# Altium footprint library MISC.PcbLib: 18 footprints (part 1 of 2)
Each footprint in its own frame and in the unit in brackets; x right, y up, seen from the top. Pads: shape width x height; smd on the part's side, far side on the other; paste and mask are expansions set on the pad; w line width, h text height; cw(c..) or ccw(c..) is an arc to the next point about the centre after c.
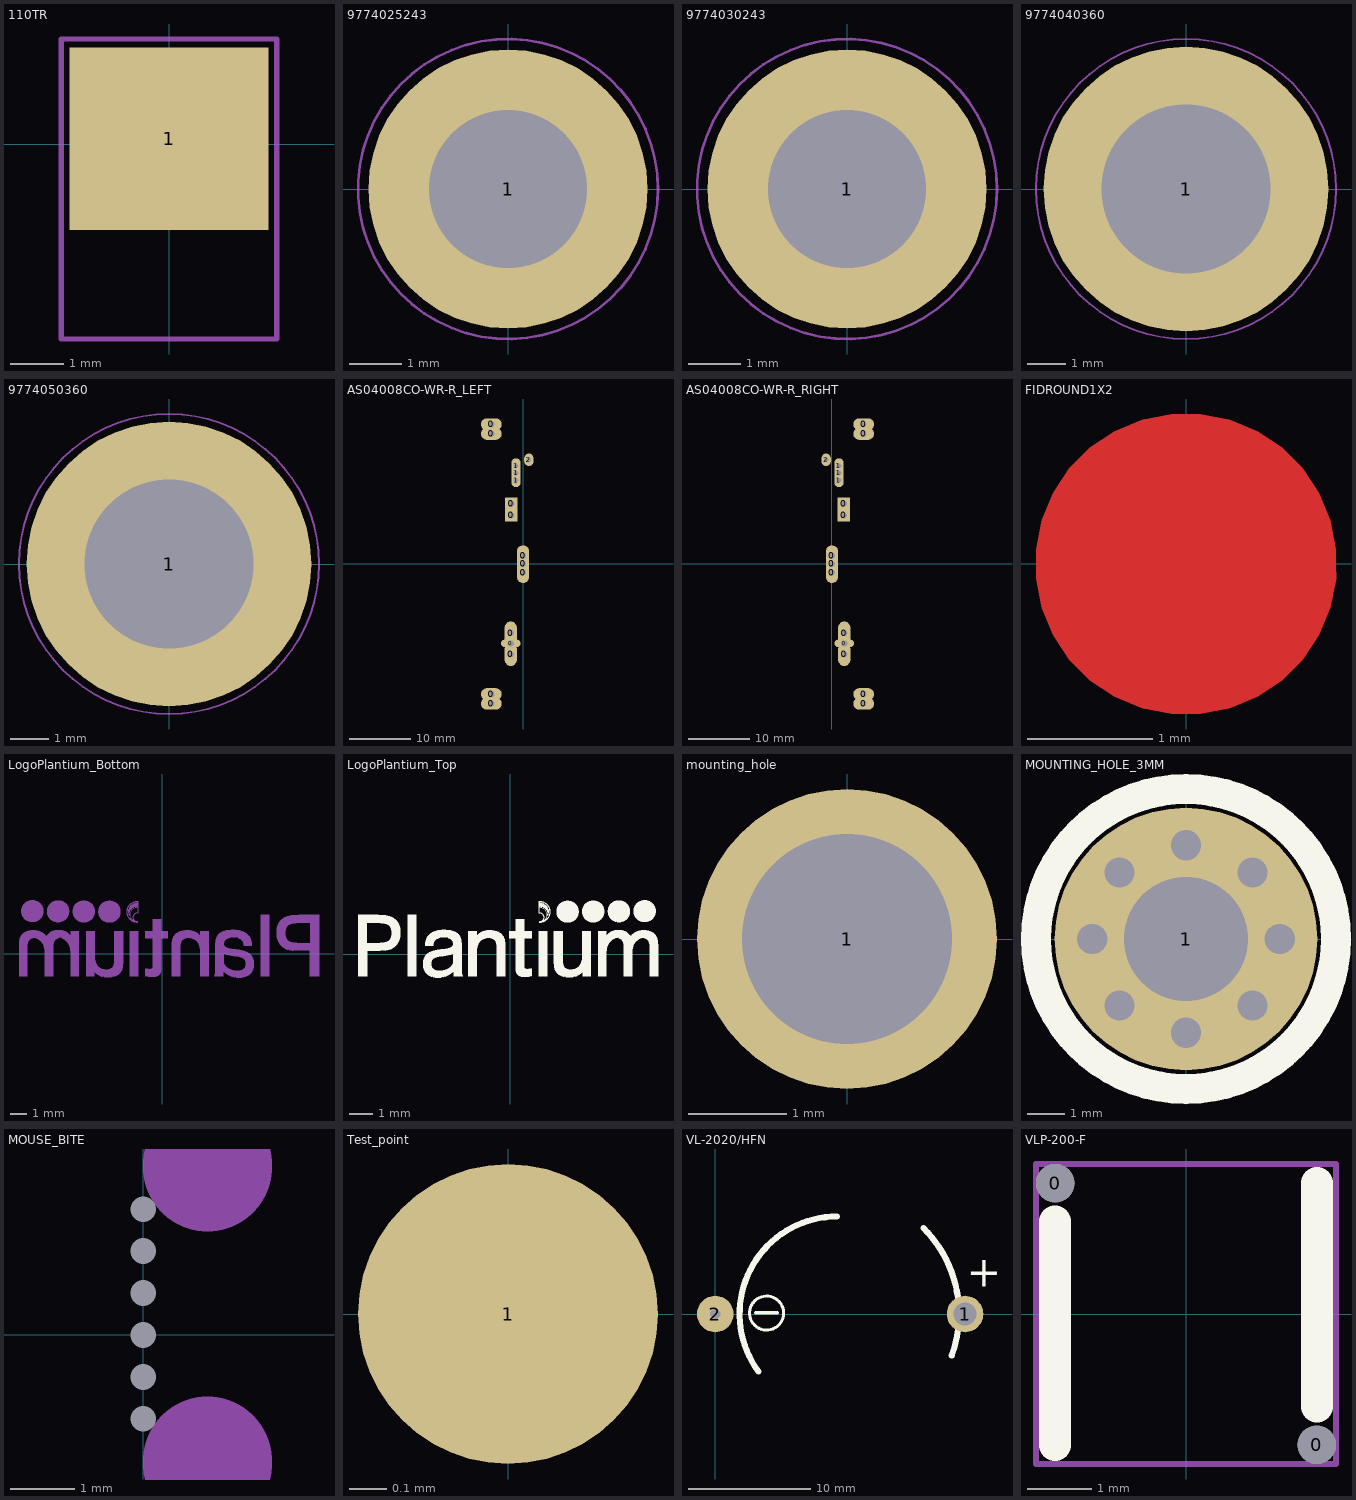
[diagram p0: the footprints below, top view; thin cyan lines are the x and y axes]

## 110TR [mm]
pads (1):
  rect 3.7x3.4 smd: 1(0,0.1)
Top Assembly:
  lines w0.102: -2.007,-3.632 2.007,-3.632 2.007,1.956 -2.007,1.956 -2.007,-3.632
  text ".Designator" at -1.219,-0.33 h1
Top Component Center:
  lines w0.15: -0.3,-0.002 0.3,-0.002 ; 0,-0.302 0,0.298
3D body "keystone-PN110TR.STEP": height 3.15, standoff -0.03, extent -1.753,-3.556 1.753,1.6

## 9774025243 [mm] "SMT Steel Spacer with internal Thread M2, height 2.5mm"
height 2.5
pads (1):
  round 5.3 / inner round 0 / far side round 0 hole 3 unplated: 1(0,0)
Top Paste:
  region: -2.542,0.3 -2.517,0.513 -2.397,0.924 -2.21,1.31 -1.962,1.659 -1.659,1.962 -1.31,2.21 -0.924,2.397 -0.513,2.517 -0.3,2.542 -0.3,1.521 -0.411,1.494 -0.627,1.418 -0.829,1.31 -1.012,1.174 -1.174,1.012 -1.31,0.829 -1.418,0.627 -1.494,0.411 -1.521,0.3
  region: -0.3,-2.542 -0.513,-2.517 -0.924,-2.397 -1.31,-2.21 -1.659,-1.962 -1.962,-1.659 -2.21,-1.31 -2.397,-0.924 -2.517,-0.513 -2.542,-0.3 -1.521,-0.3 -1.494,-0.411 -1.418,-0.627 -1.31,-0.829 -1.174,-1.012 -1.012,-1.174 -0.829,-1.31 -0.627,-1.418 -0.411,-1.494 -0.3,-1.521
  region: 2.542,-0.3 2.517,-0.513 2.397,-0.924 2.21,-1.31 1.962,-1.659 1.659,-1.962 1.31,-2.21 0.924,-2.397 0.513,-2.517 0.3,-2.542 0.3,-1.521 0.411,-1.494 0.627,-1.418 0.829,-1.31 1.012,-1.174 1.174,-1.012 1.31,-0.829 1.418,-0.627 1.494,-0.411 1.521,-0.3
  region: 0.3,2.542 0.513,2.517 0.924,2.397 1.31,2.21 1.659,1.962 1.962,1.659 2.21,1.31 2.397,0.924 2.517,0.513 2.542,0.3 1.521,0.3 1.494,0.411 1.418,0.627 1.31,0.829 1.174,1.012 1.012,1.174 0.829,1.31 0.627,1.418 0.411,1.494 0.3,1.521
Top Designator:
  text ".Designator" at -7.498,-0.5 h1.5
Top Component Outline:
  circle w0.1: c0,0 r2.175
Top 3D Body:
  circle w0.1: c0,0 r2.175
Top Courtyard:
  circle w0.05: c0,0 r2.85
  lines w0.05: -0.5,0 0.5,0 ; 0,-0.5 0,0.5
3D body "9774025243.stp": height 2.5, standoff -1.4, extent -2.175,-2.172 2.175,2.172

## 9774030243 [mm] "SMT Steel Spacer with internal Thread M2, height 3mm"
height 3
pads (1):
  round 5.3 / inner round 0 / far side round 0 hole 3 unplated: 1(0,0)
Top Paste:
  region: 0.3,2.542 0.513,2.517 0.924,2.397 1.31,2.21 1.659,1.962 1.962,1.659 2.21,1.31 2.397,0.924 2.517,0.513 2.542,0.3 1.521,0.3 1.494,0.411 1.418,0.627 1.31,0.829 1.174,1.012 1.012,1.174 0.829,1.31 0.627,1.418 0.411,1.494 0.3,1.521
  region: 2.542,-0.3 2.517,-0.513 2.397,-0.924 2.21,-1.31 1.962,-1.659 1.659,-1.962 1.31,-2.21 0.924,-2.397 0.513,-2.517 0.3,-2.542 0.3,-1.521 0.411,-1.494 0.627,-1.418 0.829,-1.31 1.012,-1.174 1.174,-1.012 1.31,-0.829 1.418,-0.627 1.494,-0.411 1.521,-0.3
  region: -0.3,-2.542 -0.513,-2.517 -0.924,-2.397 -1.31,-2.21 -1.659,-1.962 -1.962,-1.659 -2.21,-1.31 -2.397,-0.924 -2.517,-0.513 -2.542,-0.3 -1.521,-0.3 -1.494,-0.411 -1.418,-0.627 -1.31,-0.829 -1.174,-1.012 -1.012,-1.174 -0.829,-1.31 -0.627,-1.418 -0.411,-1.494 -0.3,-1.521
  region: -2.542,0.3 -2.517,0.513 -2.397,0.924 -2.21,1.31 -1.962,1.659 -1.659,1.962 -1.31,2.21 -0.924,2.397 -0.513,2.517 -0.3,2.542 -0.3,1.521 -0.411,1.494 -0.627,1.418 -0.829,1.31 -1.012,1.174 -1.174,1.012 -1.31,0.829 -1.418,0.627 -1.494,0.411 -1.521,0.3
Top Designator:
  text ".Designator" at -7.498,-0.5 h1.5
Top Component Outline:
  circle w0.1: c0,0 r2.175
Top 3D Body:
  circle w0.1: c0,0 r2.175
Top Courtyard:
  circle w0.05: c0,0 r2.85
  lines w0.05: -0.5,0 0.5,0 ; 0,-0.5 0,0.5
3D body "9774030243.stp": height 3, standoff -1.4, extent -2.175,-2.172 2.175,2.172

## 9774040360 [mm] "Steel Spacer M3 Thread Internal, Length 4mm"
height 4
pads (1):
  round 7.4 / inner round 0 / far side round 0 hole 4.4 unplated: 1(0,0)
Top Paste:
  region: 0.4,3.613 0.4,2.204 0.566,2.167 0.886,2.057 1.186,1.9 1.46,1.699 1.699,1.46 1.9,1.186 2.057,0.886 2.167,0.566 2.204,0.4 3.613,0.4 3.59,0.603 3.5,1.003 3.365,1.389 3.188,1.758 2.97,2.105 2.715,2.425 2.426,2.715 2.106,2.97 1.759,3.188 1.39,3.365 1.003,3.5 0.604,3.59 0.4,3.613
  region: 3.613,-0.4 2.204,-0.4 2.167,-0.566 2.057,-0.886 1.9,-1.186 1.699,-1.46 1.46,-1.699 1.186,-1.9 0.886,-2.057 0.566,-2.167 0.4,-2.204 0.4,-3.613 0.603,-3.59 1.003,-3.5 1.389,-3.365 1.758,-3.188 2.105,-2.97 2.425,-2.715 2.715,-2.426 2.97,-2.106 3.188,-1.759 3.365,-1.39 3.5,-1.003 3.59,-0.604 3.613,-0.4
  region: -0.4,-3.613 -0.4,-2.204 -0.566,-2.167 -0.886,-2.057 -1.186,-1.9 -1.46,-1.699 -1.699,-1.46 -1.9,-1.186 -2.057,-0.886 -2.167,-0.566 -2.204,-0.4 -3.613,-0.4 -3.59,-0.603 -3.5,-1.003 -3.365,-1.389 -3.188,-1.758 -2.97,-2.105 -2.715,-2.425 -2.426,-2.715 -2.106,-2.97 -1.759,-3.188 -1.39,-3.365 -1.003,-3.5 -0.604,-3.59 -0.4,-3.613
  region: -3.613,0.4 -2.204,0.4 -2.167,0.566 -2.057,0.886 -1.9,1.186 -1.699,1.46 -1.46,1.699 -1.186,1.9 -0.886,2.057 -0.566,2.167 -0.4,2.204 -0.4,3.613 -0.603,3.59 -1.003,3.5 -1.389,3.365 -1.758,3.188 -2.105,2.97 -2.425,2.715 -2.715,2.426 -2.97,2.106 -3.188,1.759 -3.365,1.39 -3.5,1.003 -3.59,0.604 -3.613,0.4
Top Designator:
  text ".Designator" at -7.498,-0.5 h1.5
Top Component Outline:
  circle w0.1: c0,0 r3
Top 3D Body:
  circle w0.1: c0,0 r3
Top Courtyard:
  circle w0.05: c0,0 r3.9
  lines w0.05: -0.5,0 0.5,0 ; 0,-0.5 0,0.5
3D body "9774040360.stp": height 4, standoff -1.4, extent -3,-3 3,3

## 9774050360 [mm] "M3 Thread Internal, Length 5mm"
height 5
pads (1):
  round 7.4 / inner round 0 / far side round 0 hole 4.4 unplated: 1(0,0)
Top Paste:
  region: 0.4,3.613 0.4,2.204 0.566,2.167 0.886,2.057 1.186,1.9 1.46,1.699 1.699,1.46 1.9,1.186 2.057,0.886 2.167,0.566 2.204,0.4 3.613,0.4 3.59,0.603 3.5,1.003 3.365,1.389 3.188,1.758 2.97,2.105 2.715,2.425 2.426,2.715 2.106,2.97 1.759,3.188 1.39,3.365 1.003,3.5 0.604,3.59 0.4,3.613
  region: 3.613,-0.4 2.204,-0.4 2.167,-0.566 2.057,-0.886 1.9,-1.186 1.699,-1.46 1.46,-1.699 1.186,-1.9 0.886,-2.057 0.566,-2.167 0.4,-2.204 0.4,-3.613 0.603,-3.59 1.003,-3.5 1.389,-3.365 1.758,-3.188 2.105,-2.97 2.425,-2.715 2.715,-2.426 2.97,-2.106 3.188,-1.759 3.365,-1.39 3.5,-1.003 3.59,-0.604 3.613,-0.4
  region: -0.4,-3.613 -0.4,-2.204 -0.566,-2.167 -0.886,-2.057 -1.186,-1.9 -1.46,-1.699 -1.699,-1.46 -1.9,-1.186 -2.057,-0.886 -2.167,-0.566 -2.204,-0.4 -3.613,-0.4 -3.59,-0.603 -3.5,-1.003 -3.365,-1.389 -3.188,-1.758 -2.97,-2.105 -2.715,-2.425 -2.426,-2.715 -2.106,-2.97 -1.759,-3.188 -1.39,-3.365 -1.003,-3.5 -0.604,-3.59 -0.4,-3.613
  region: -3.613,0.4 -2.204,0.4 -2.167,0.566 -2.057,0.886 -1.9,1.186 -1.699,1.46 -1.46,1.699 -1.186,1.9 -0.886,2.057 -0.566,2.167 -0.4,2.204 -0.4,3.613 -0.603,3.59 -1.003,3.5 -1.389,3.365 -1.758,3.188 -2.105,2.97 -2.425,2.715 -2.715,2.426 -2.97,2.106 -3.188,1.759 -3.365,1.39 -3.5,1.003 -3.59,0.604 -3.613,0.4
Top Designator:
  text ".Designator" at -7.498,-0.5 h1.5
Top Component Outline:
  circle w0.1: c0,0 r3
Top 3D Body:
  circle w0.1: c0,0 r3
Top Courtyard:
  circle w0.05: c0,0 r3.9
  lines w0.05: -0.5,0 0.5,0 ; 0,-0.5 0,0.5
3D body "9774050360.stp": height 5, standoff -1.4, extent -3,-3 3,3

## AS04008CO-WR-R_LEFT [mm]
pads (16):
  oval 3.4x2 hole 1: 0(-5.175,-22.775) 0(-5.175,-21.251) 0(-5.175,21.251) 0(-5.175,22.775)
  oval 2x3.8 hole 1: 0(-2,-14.75) 0(-2,-11.275)
  oval 3.2x1.2 hole 1: 0(-2,-12.95)
  rect 2x2 hole 1: 0(-1.923,9.823) 0(-1.923,7.919)
  oval 2x3.4 hole 1: 0(0,-1.4) 0(0,0) 0(0,1.35)
  oval 1.5x2.2 hole 0.75: 1(-1.146,13.65)
  oval 1.5x2.4 hole 0.75: 1(-1.146,14.85) 1(-1.146,16.05)
  oval 1.524x2.032 hole 0.762: 2(0.954,17)
3D body "AS04008CO-WR-R.stp": height 14.4, standoff -5.6, extent -7.056,-19.958 -1.056,20.042

## AS04008CO-WR-R_RIGHT [mm]
pads (16):
  oval 2x3.4 hole 1: 0(0,-1.4) 0(0,0) 0(0,1.35)
  rect 2x2 hole 1: 0(1.923,7.919) 0(1.923,9.823)
  oval 2x3.8 hole 1: 0(2,-14.75) 0(2,-11.275)
  oval 3.2x1.2 hole 1: 0(2,-12.95)
  oval 3.4x2 hole 1: 0(5.175,21.251) 0(5.175,22.775) 0(5.175,-22.775) 0(5.175,-21.251)
  oval 1.5x2.2 hole 0.75: 1(1.146,13.65)
  oval 1.5x2.4 hole 0.75: 1(1.146,14.85) 1(1.146,16.05)
  oval 1.524x2.032 hole 0.762: 2(-0.954,17)
3D body "AS04008CO-WR-R.stp": height 14.4, standoff -5.6, extent 1.12,-19.958 7.12,20.042

## FIDROUND1X2 [mm] "Fiducial rounded 1mm - 2mm"
Top Layer:
  region: 0,-0.5 -0.099,-0.5 -0.283,-0.424 -0.424,-0.283 -0.5,-0.099 -0.5,0 -0.5,0.099 -0.424,0.283 -0.283,0.424 -0.099,0.5 0,0.5 0.099,0.5 0.283,0.424 0.424,0.283 0.5,0.099 0.5,0 0.5,-0.099 0.424,-0.283 0.283,-0.424 0.099,-0.5
  pour cut-out: 0,-1.2 -0.118,-1.2 -0.35,-1.154 -0.568,-1.063 -0.765,-0.932 -0.932,-0.765 -1.063,-0.568 -1.154,-0.35 -1.2,-0.118 -1.2,0 -1.2,0.118 -1.154,0.35 -1.063,0.568 -0.932,0.765 -0.765,0.932 -0.568,1.063 -0.35,1.154 -0.118,1.2 0,1.2 0.118,1.2 0.35,1.154 0.568,1.063 0.765,0.932 0.932,0.765 1.063,0.568 1.154,0.35 1.2,0.118 1.2,0 1.2,-0.118 1.154,-0.35 1.063,-0.568 0.932,-0.765 0.765,-0.932 0.568,-1.063 0.35,-1.154 0.118,-1.2
Top Solder:
  region: 0,-1 -0.099,-1 -0.292,-0.962 -0.474,-0.886 -0.637,-0.777 -0.777,-0.637 -0.886,-0.474 -0.962,-0.292 -1,-0.098 -1,0 -1,0.098 -0.962,0.292 -0.886,0.474 -0.777,0.637 -0.637,0.777 -0.474,0.886 -0.292,0.962 -0.098,1 0,1 0.098,1 0.292,0.962 0.474,0.886 0.637,0.777 0.777,0.637 0.886,0.474 0.962,0.292 1,0.098 1,0 1,-0.098 0.962,-0.292 0.886,-0.474 0.777,-0.637 0.637,-0.777 0.474,-0.886 0.292,-0.962 0.098,-1

## LogoPlantium_Bottom [mm]
Bottom Overlay:
  drawing of 13 lines, arcs and shapes, not listed

## LogoPlantium_Top [mm]
Top Overlay:
  drawing of 13 lines, arcs and shapes, not listed

## mounting_hole [mil]
pads (1):
  round 120 hole 84: 1(0,0)
Top Component Center:
  lines w5.91: -11.81,-0.08 11.81,-0.08 ; 0,-11.89 0,11.73

## MOUNTING_HOLE_3MM [mm]
pads (1):
  round 7 hole 3.302: 1(0,0)
via -2.5,0 diameter 1.2 hole 0.8
via 2.5,0 diameter 1.2 hole 0.8
via 0,2.5 diameter 1.2 hole 0.8
via 0,-2.5 diameter 1.2 hole 0.8
via -1.767,1.767 diameter 1.2 hole 0.8
via -1.767,-1.767 diameter 1.2 hole 0.8
via 1.767,-1.767 diameter 1.2 hole 0.8
via 1.767,1.767 diameter 1.2 hole 0.8
Top Overlay:
  circle w0.8: c0,0 r4

## MOUSE_BITE [mm]
pads (6):
  round 0 hole 0.4 unplated: 1(0,1.95) 1(0,0) 1(0,0.65) 1(0,-1.3) 1(0,1.3) 1(0,-0.65)
Mechanical 1:
  lines w2: 1,-2 1,-1.95 ; 1,2.6 1,2.65

## Test_point [mm]
pads (1):
  round 0.8 smd paste-1.27: 1(0,0)
Top Component Center:
  lines w0.15: -0.3,-0.002 0.3,-0.002 ; 0,-0.302 0,0.298

## VL-2020/HFN [mm] "(21.5mm x 20.3mm x 4.5mm)"
height 4.5
pads (2):
  round 3 hole 1.9: 1(20.5,0)
  round 3 hole 0.85: 2(0,0)
Top Overlay:
  circle w0.254: c4.208,0.075 r1.397
  lines w0.254: 3.319,0.1 5.097,0.1
  lines w0.5: 3.541,-4.72 cw(c10,0) 10,8 ; 17.071,7.071 cw(c10,0) 19.406,-3.394
  text "+" at 20.618,2.23 h2.5

## VLP-200-F [mm] "Light Pipe Vert SMD Flat Face"
height 5.1
pads (2):
  round 0.6 hole 0.6 unplated: 0(-2.05,2.05) 0(2.05,-2.05)
Top Overlay:
  lines w0.5: -2.05,-2.05 -2.05,1.45 ; 2.05,-1.45 2.05,2.05
Top Assembly:
  lines w0.102: -2.35,-2.35 2.35,-2.35 2.35,2.35 -2.35,2.35 -2.35,-2.35
  text ".Designator" at -1.397,-0.381 h1
3D body "VLP-200-F.step": height 5.13, standoff -1.47, extent -2.35,-2.349 2.349,2.35